# Altium schematic symbol library avago.SchLib: 1 symbol
Pins are listed as number, name and electrical type; pins without a type are passive.

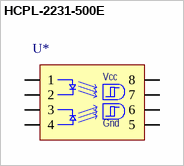
[diagram p0: symbol HCPL-2231-500E]

## HCPL-2231-500E
designator U*
footprint 8-PIN Gull Wing (Gull Wing Package)
pins: 1, 2, 3, 4, 5, 6, 7, 8
text: Vcc; Gnd